# Altium schematic symbol library SS14.SchLib: 1 symbol
Pins are listed as number, name and electrical type; pins without a type are passive.

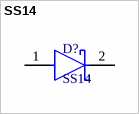
[diagram p0: symbol SS14]

## SS14
designator D?
footprint DO-214-AC
pins: 1 A, 2 C